# Altium footprint library 606-200041.PcbLib: 10 footprints
Each footprint in its own frame and in the unit in brackets; x right, y up, seen from the top. Pads: shape width x height; smd on the part's side, far side on the other; paste and mask are expansions set on the pad; w line width, h text height; cw(c..) or ccw(c..) is an arc to the next point about the centre after c.
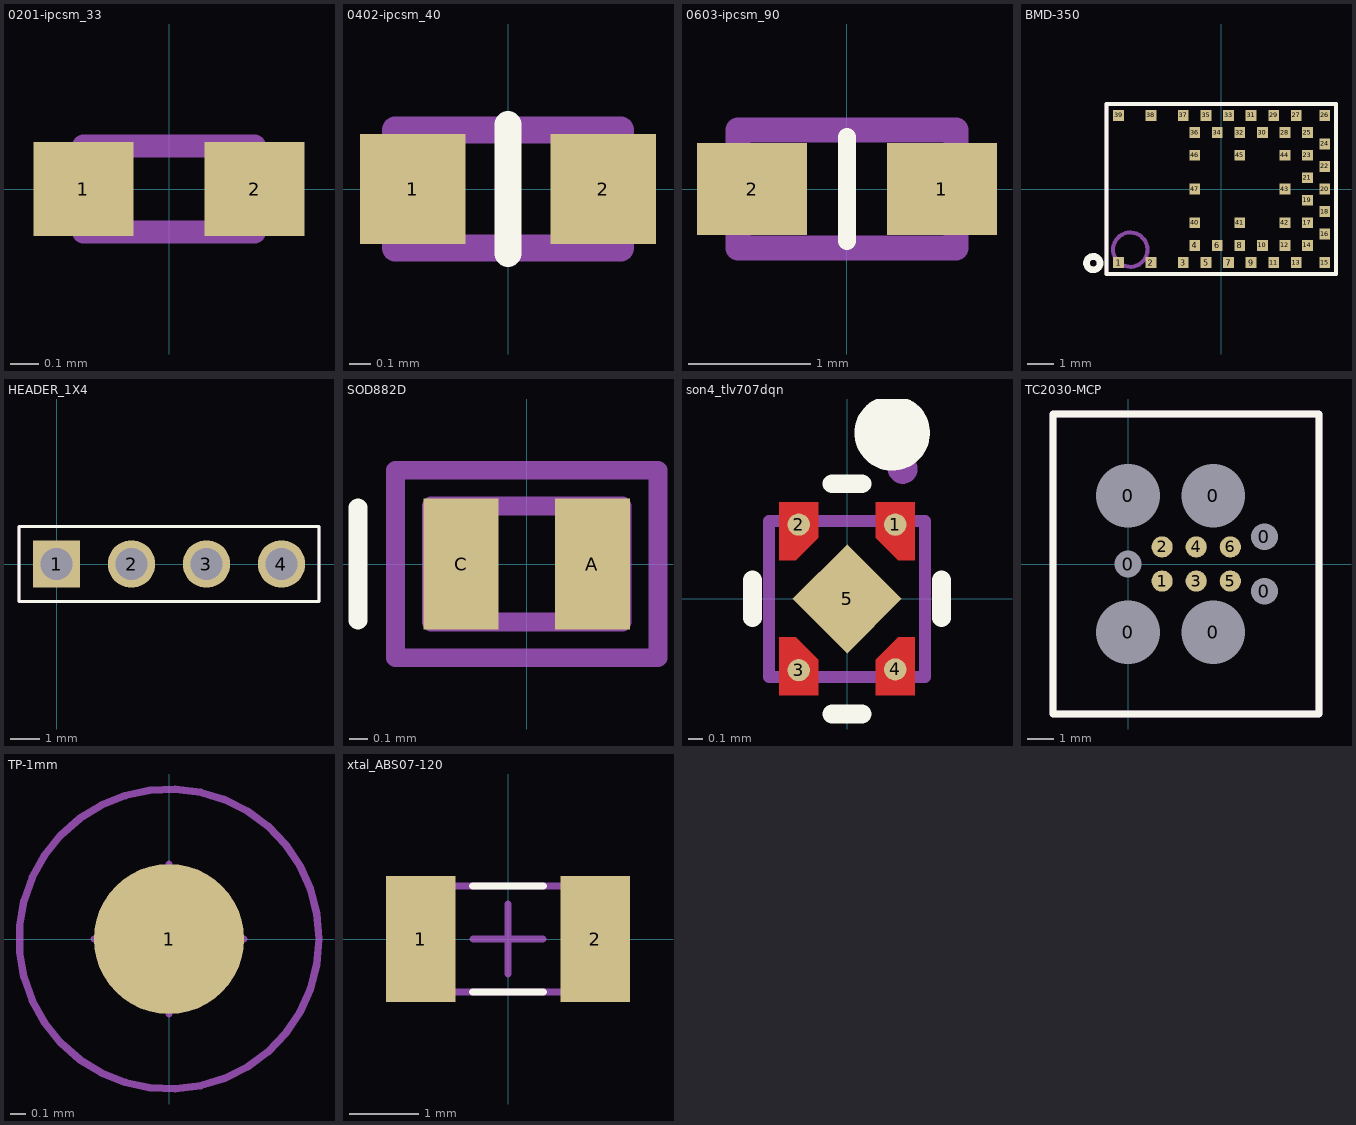
[diagram p0: the footprints below, top view; thin cyan lines are the x and y axes]

## 0201-ipcsm_33 [mm] "0201-IPCSM_33"
height 0.33
pads (2):
  rect 0.35x0.33 smd mask+0.05: 1(-0.3,0) 2(0.3,0)
Top Solder:
  region: -0.525,0.215 0.525,0.215 0.525,-0.215 -0.525,-0.215
Mechanical 3:
  text ".Designator" at 1.397,0.254 h0.5
Mechanical 15:
  lines w0.08: -0.3,-0.15 0.3,-0.15 0.3,0.15 -0.3,0.15 -0.3,-0.15
3D body: height 0.33, standoff 0, extent -0.254,-0.127 0.254,0.127

## 0402-ipcsm_40 [mm] "0402-IPCSM_40"
height 0.4
pads (2):
  rect 0.5x0.52 smd mask+0.05: 1(-0.45,0) 2(0.45,0)
Top Overlay:
  lines w0.127: 0,-0.305 0,0.305
Mechanical 3:
  text ".Designator" at -0.356,0.54 h0.5
Mechanical 15:
  lines w0.127: -0.533,-0.279 -0.533,0.279 0.533,0.279 0.533,-0.279 -0.533,-0.279
3D body: height 0.4, standoff 0, extent -0.5,-0.2 0.5,0.2

## 0603-ipcsm_90 [mm] "0603-IPCSM_90"
height 0.9
pads (2):
  rect 0.9x0.75 smd mask+0.05: 1(0.775,0) 2(-0.775,0)
Top Overlay:
  lines w0.15: 0,-0.425 0,0.425
Mechanical 3:
  text ".Designator" at 0.381,0.254 h0.5
Mechanical 15:
  lines w0.025: -0.8,-0.406 0.8,-0.406 0.8,0.406 -0.8,0.406 -0.8,-0.406
  lines w0.203: 0.864,-0.483 0.889,-0.483 ; 0.889,-0.483 -0.889,-0.483 -0.889,0.483 0.889,0.483 0.889,-0.483
3D body: height 0.9, standoff 0, extent -0.8,-0.3 0.8,0.3

## BMD-350 [mil]
pads (47):
  rect 16x16 smd mask+2: 1(-152.48,-109.25) 2(-104.45,-109.25) 3(-56.42,-109.25) 4(-39.37,-83.66) 5(-22.64,-109.25) 6(-5.91,-83.66) 7(10.83,-109.25) 8(27.56,-83.66) 9(44.29,-109.25) 10(61.02,-83.66) 11(77.76,-109.25) 12(94.49,-83.66) 13(111.22,-109.25) 14(127.95,-83.66) 15(153.74,-109.25) 16(153.74,-66.93) 17(127.95,-50.2) 18(153.74,-33.46) 19(127.95,-16.73) 20(153.74,0) 21(127.95,16.73) 22(153.74,33.46) 23(127.95,50.2) 24(153.74,66.93) 25(127.95,83.66) 26(153.74,109.25) 27(111.22,109.25) 28(94.49,83.66) 29(77.76,109.25) 30(61.02,83.66) 31(44.29,109.25) 32(27.56,83.66) 33(10.83,109.25) 34(-5.91,83.66) 35(-22.64,109.25) 36(-39.37,83.66) 37(-56.42,109.25) 38(-104.45,109.25) 39(-152.48,109.25) 40(-39.37,-50.2) 41(27.56,-50.2) 42(94.49,-50.2) 43(94.49,0) 44(94.49,50.2) 45(27.56,50.2) 46(-39.37,50.2) 47(-39.37,0)
Top Overlay:
  circle w10: c-190,-110 r10
  lines w6: -170.28,-125.98 -170.28,125.98 0,125.98 170.28,125.98 170.28,-125.98 0,-125.98 -170.28,-125.98
Mechanical 3:
  text ".Designator" at 57.63,15.5 h35
Mechanical 15:
  circle w6: c-135,-90 r25.5
  lines w6: -170.28,-125.98 0,-125.98 170.28,-125.98 170.28,125.98 0,125.98 -170.28,125.98 -170.28,-125.98
Multi-Layer:
  pour cut-out: -275,125 -165,125 -165,100 -50,100 -50,-100 -170.28,-100 -170.28,-125 -275,-125
3D body "BMD-350-STEP-Library.STEP": height 58.85, standoff 1.74, extent -168.59,-126.96 171.96,125

## HEADER_1X4 [mil] "9 pin header"
height 265.75
pads (4):
  rect 63x63 hole 43: 1(0,0)
  round 63 hole 43: 2(100,0) 3(200,0) 4(300,0)
Top Overlay:
  lines w3.94: -50,-50 350,-50 350,50 -50,50 -50,-50
Mechanical 3:
  text ".Designator" at 56.5,-10 h19.68
Mechanical 15:
  lines w3.94: -50,-50 350,-50 350,50 -50,50 -50,-50

## SOD882D [mm]
height 0.4
pads (2):
  rect 0.4x0.7 smd mask+0.05: A(0.35,0) C(-0.35,0)
Top Overlay:
  lines w0.1: -0.9,-0.3 -0.9,0.3
Mechanical 3:
  text "'.Designator'" at 0,0 h1.52
Mechanical 13:
  lines w0.1: -0.51,-0.31 0.51,-0.31 0.51,0.31 -0.51,0.31 -0.51,-0.31
Mechanical 15:
  lines w0.1: -0.7,-0.5 0.7,-0.5 0.7,0.5 -0.7,0.5 -0.7,-0.5
3D body: height 0.5, standoff 0, extent -0.51,-0.31 0.51,0.31

## son4_tlv707dqn [mm] "100x100x43_65p"
height 0.4
pads (5):
  round 0.15 smd paste-5 mask-5: 1(0.325,0.5) 2(-0.325,0.5) 3(-0.325,-0.48) 4(0.325,-0.475)
  rect 0.52x0.52 smd rot 45 paste-0.1 mask+0.05: 5(0,0)
Top Layer:
  region: -0.455,0.26 -0.455,0.65 -0.195,0.65 -0.195,0.41 -0.345,0.26
  region: 0.455,-0.26 0.455,-0.65 0.195,-0.65 0.195,-0.41 0.345,-0.26
  region: -0.455,-0.26 -0.455,-0.65 -0.195,-0.65 -0.195,-0.41 -0.345,-0.26
  region: 0.455,0.26 0.455,0.65 0.195,0.65 0.195,0.41 0.345,0.26
Top Overlay:
  circle w0.254: c0.305,1.118 r0.127
  lines w0.127: -0.635,-0.127 -0.635,0.127 ; -0.1,-0.775 0.1,-0.775 ; -0.1,0.775 0.1,0.775 ; 0.635,-0.127 0.635,0.127
Top Paste:
  region: 0.445,-0.27 0.445,-0.64 0.205,-0.64 0.205,-0.41 0.345,-0.27
  region: -0.445,0.27 -0.445,0.64 -0.205,0.64 -0.205,0.41 -0.345,0.27
  region: -0.445,-0.27 -0.445,-0.64 -0.205,-0.64 -0.205,-0.41 -0.345,-0.27
  region: 0.445,0.27 0.445,0.64 0.205,0.64 0.205,0.41 0.345,0.27
Top Solder:
  region: 0.51,-0.21 0.51,-0.7 0.14,-0.7 0.14,-0.415 0.345,-0.21
  region: -0.51,0.21 -0.51,0.7 -0.14,0.7 -0.14,0.415 -0.345,0.21
  region: -0.51,-0.21 -0.51,-0.7 -0.14,-0.7 -0.14,-0.415 -0.345,-0.21
  region: 0.51,0.21 0.51,0.7 0.14,0.7 0.14,0.415 0.345,0.21
Mechanical 3:
  text ".Designator" at 0.241,0.22 h0.5
Mechanical 15:
  circle w0.15: c0.375,0.875 r0.025
  lines w0.08: -0.525,-0.525 -0.525,0.525 0.525,0.525 0.525,-0.525 -0.525,-0.525
3D body: height 0.4, standoff 0, extent -0.525,-0.525 0.525,0.525

## TC2030-MCP [mm] "Tag-Connect 6-Pin with Legs (PN# TC2030-IDC-NL)"
pads (13):
  round 2.3 hole 2.375 unplated: 0(0,-2.54) 0(0,2.54) 0(3.175,-2.54) 0(3.175,2.54)
  round 0.9 hole 0.995 unplated: 0(0,0) 0(5.08,-1.016) 0(5.08,1.016)
  round 0.79 smd paste-0.406 mask+0.064: 1(1.27,-0.635) 2(1.27,0.635) 3(2.54,-0.635) 4(2.54,0.635) 5(3.81,-0.635) 6(3.81,0.635)
Top Overlay:
  lines w0.254: -2.794,-5.588 -2.794,5.588 7.112,5.588 7.112,-5.588 -2.794,-5.588
Mechanical 3:
  text ".Designator" at 0.508,3.937 h0.89
Mechanical 15:
  lines w0.254: -2.794,-5.588 7.112,-5.588 7.112,5.588 -2.794,5.588 -2.794,-5.588

## TP-1mm [mm] "Testpoint, single 1mm round pad"
pads (1):
  round 1 smd paste-1: 1(0,0)
Mechanical 3:
  text ".Designator" at -0.8,-0.4 h1.3
Mechanical 15:
  circle w0.05: c0,0 r1
  lines w0.05: -0.5,0 0,0 ; 0,-0.5 0,0 ; 0,0.5 0,0 ; 0.5,0 0,0

## xtal_ABS07-120 [mm]
height 0.9
pads (2):
  rect 1x1.8 smd mask+0.064: 1(-1.25,0) 2(1.25,0)
Top Overlay:
  lines w0.1: -0.508,-0.762 0.508,-0.762 ; -0.508,0.762 0.508,0.762
Mechanical 3:
  text ".Designator" at -1.397,0.508 h0.7
Mechanical 15:
  lines w0.1: -0.5,0 0.5,0 ; 0,-0.5 0,0.5 ; -1.651,-0.762 -1.651,0.762 0,0.762 1.651,0.762 1.651,-0.762 0,-0.762 -1.651,-0.762
3D body "ABS07-120.STEP": height 0.89, standoff 0, extent -1.603,-0.752 1.603,0.752